# Altium schematic symbol library TMC262-LA.SchLib: 1 symbol
Pins are listed as number, name and electrical type; pins without a type are passive.

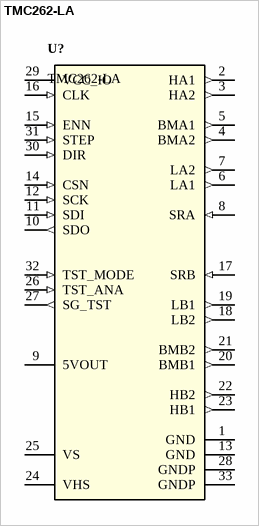
[diagram p0: symbol TMC262-LA]

## TMC262-LA
designator U?
Stepper motor gate driver
pins: 1 GND (power), 2 HA1 (out), 3 HA2 (out), 4 BMA2 (out), 5 BMA1 (out), 6 LA1 (out), 7 LA2 (out), 8 SRA (in), 9 5VOUT (power), 10 SDO (out), 11 SDI (in), 12 SCK (in), 13 GND (power), 14 CSN (in), 15 ENN (in), 16 CLK (in), 17 SRB (in), 18 LB2 (out), 19 LB1 (out), 20 BMB1 (out), 21 BMB2 (out), 22 HB2 (out), 23 HB1 (out), 24 VHS (power), 25 VS (power), 26 TST_ANA (in), 27 SG_TST (out), 28 GNDP (power), 29 VCC_IO (power), 30 DIR (in), 31 STEP (in), 32 TST_MODE (in), 33 GNDP (power)